# Altium footprint library Pcb_SX1308.PcbLib: 1 footprints
Each footprint in its own frame and in the unit in brackets; x right, y up, seen from the top. Pads: shape width x height; smd on the part's side, far side on the other; paste and mask are expansions set on the pad; w line width, h text height; cw(c..) or ccw(c..) is an arc to the next point about the centre after c.
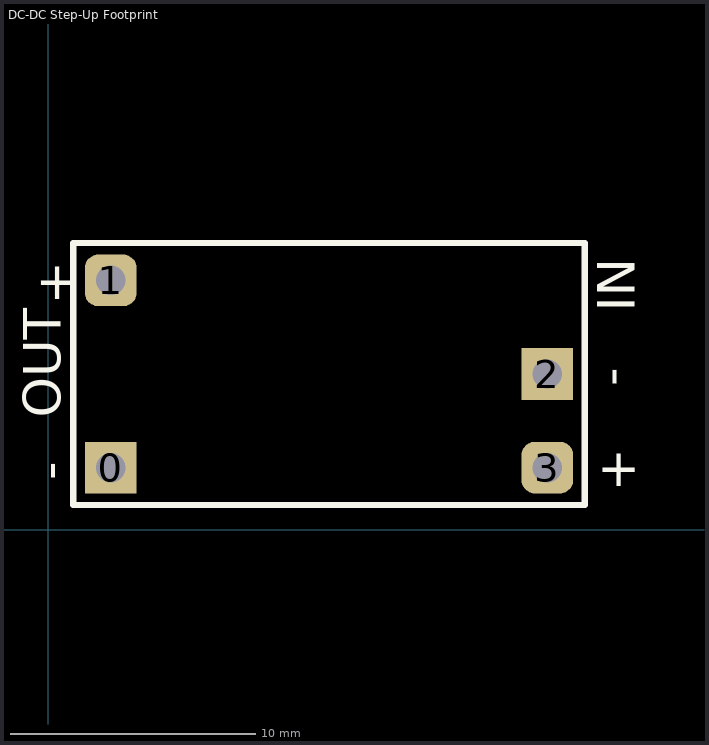
[diagram p0: the footprint, top view; thin cyan lines are the x and y axes]

## DC-DC Step-Up Footprint [mm]
pads (4):
  rect 2.1x2.1 hole 1.2: 0(2.54,2.54) 2(20.32,6.35)
  rrect50% 2.1x2.1 hole 1.2: 1(2.54,10.16) 3(20.32,2.54)
Top Overlay:
  lines w0.254: 1.016,1.016 21.844,1.016 21.844,11.684 1.016,11.684 1.016,1.016
  text "OUT" at 0.508,4.572 h1.52
  text "+" at -0.508,9.398 h1.52
  text "-" at 0.762,2.032 h1.52
  text "IN" at 23.876,8.89 h1.52
  text "-" at 23.622,5.842 h1.52
  text "+" at 22.352,1.778 h1.52